# EAGLE library part US_BOARD_ADAPTED (library Traficon)
Board for US-racks, but with an 3x16pins DIN41612F connector
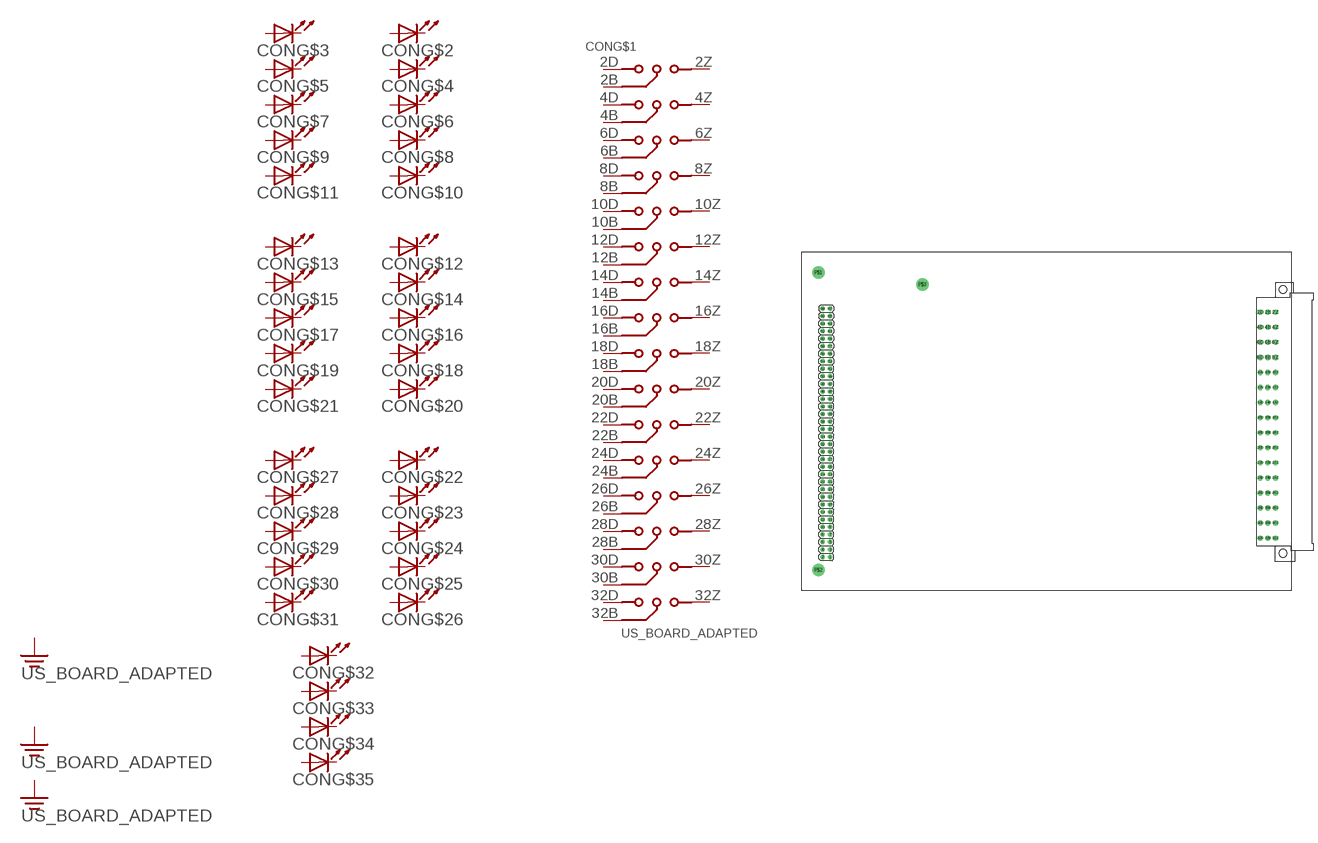
[diagram p65: symbol with the pads of US_BOARD_ADAPTED; footprint US_BOARD_ADAPTED]

Designator prefix CON; gates G$1=DIN41612-F G$2=LED-2 G$3=LED-2 G$4=LED-2 G$5=LED-2 G$6=LED-2 G$7=LED-2 G$8=LED-2 G$9=LED-2 G$10=LED-2 G$11=LED-2 G$12=LED-2 G$13=LED-2 G$14=LED-2 G$15=LED-2 G$16=LED-2 G$17=LED-2 G$18=LED-2 G$19=LED-2 G$20=LED-2 G$21=LED-2 G$22=LED-2 G$23=LED-2 G$24=LED-2 G$25=LED-2 G$26=LED-2 G$27=LED-2 G$28=LED-2 G$29=LED-2 G$30=LED-2 G$31=LED-2 G$32=LED-2 G$33=LED-2 G$34=LED-2 G$35=LED-2 G$36=PE G$37=PE G$38=PE

## US_BOARD_ADAPTED  [US_BOARD_ADAPTED]
1  G$2:A  pas
2  G$3:A  pas
2B  G$1:2B
2D  G$1:2D
2Z  G$1:2Z
3  G$2:C  pas
4  G$3:C  pas
4B  G$1:4B
4D  G$1:4D
4Z  G$1:4Z
5  G$4:A  pas
6  G$5:A  pas
6B  G$1:6B
6D  G$1:6D
6Z  G$1:6Z
7  G$4:C  pas
8  G$5:C  pas
8B  G$1:8B
8D  G$1:8D
8Z  G$1:8Z
9  G$6:A  pas
10  G$7:A  pas
10B  G$1:10B
10D  G$1:10D
10Z  G$1:10Z
11  G$6:C  pas
12  G$7:C  pas
12B  G$1:12B
12D  G$1:12D
12Z  G$1:12Z
13  G$8:A  pas
14  G$9:A  pas
14B  G$1:14B
14D  G$1:14D
14Z  G$1:14Z
15  G$8:C  pas
16  G$9:C  pas
16B  G$1:16B
16D  G$1:16D
16Z  G$1:16Z
17  G$10:A  pas
18  G$11:A  pas
18B  G$1:18B
18D  G$1:18D
18Z  G$1:18Z
19  G$10:C  pas
20  G$11:C  pas
20B  G$1:20B
20D  G$1:20D
20Z  G$1:20Z
21  G$12:A  pas
22  G$13:A  pas
22B  G$1:22B
22D  G$1:22D
22Z  G$1:22Z
23  G$12:C  pas
24  G$13:C  pas
24B  G$1:24B
24D  G$1:24D
24Z  G$1:24Z
25  G$14:A  pas
26  G$15:A  pas
26B  G$1:26B
26D  G$1:26D
26Z  G$1:26Z
27  G$14:C  pas
28  G$15:C  pas
28B  G$1:28B
28D  G$1:28D
28Z  G$1:28Z
29  G$16:A  pas
30  G$17:A  pas
30B  G$1:30B
30D  G$1:30D
30Z  G$1:30Z
31  G$16:C  pas
32  G$17:C  pas
32B  G$1:32B
32D  G$1:32D
32Z  G$1:32Z
33  G$18:A  pas
34  G$19:A  pas
35  G$18:C  pas
36  G$19:C  pas
37  G$20:A  pas
38  G$21:A  pas
39  G$20:C  pas
40  G$21:C  pas
41  G$22:A  pas
42  G$23:A  pas
43  G$22:C  pas
44  G$23:C  pas
45  G$24:A  pas
46  G$25:A  pas
47  G$24:C  pas
48  G$25:C  pas
49  G$26:A  pas
50  G$27:A  pas
51  G$26:C  pas
52  G$27:C  pas
53  G$28:A  pas
54  G$29:A  pas
55  G$28:C  pas
56  G$29:C  pas
57  G$30:A  pas
58  G$31:A  pas
59  G$30:C  pas
60  G$31:C  pas
61  G$32:A  pas
62  G$33:A  pas
63  G$32:C  pas
64  G$33:C  pas
65  G$34:A  pas
66  G$35:A  pas
67  G$34:C  pas
68  G$35:C  pas
P$1  G$36:PE  sup
P$2  G$37:PE  sup
P$3  G$38:PE  sup

## Footprint US_BOARD_ADAPTED (pad centres in mm)
drill 1.016 octagon: 1 12.525,11.43; 2 9.985,11.43; 3 12.525,13.97; 4 9.985,13.97; 5 12.525,16.51; 6 9.985,16.51; 7 12.525,19.05; 8 9.985,19.05; 9 12.525,21.59; 10 9.985,21.59; 11 12.525,24.13; 12 9.985,24.13; 13 12.525,26.67; 14 9.985,26.67; 15 12.525,29.21; 16 9.985,29.21; 17 12.525,31.75; 18 9.985,31.75; 19 12.525,34.29; 20 9.985,34.29; 21 12.525,36.83; 22 9.985,36.83; 23 12.525,39.37; 24 9.985,39.37; 25 12.525,41.91; 26 9.985,41.91; 27 12.525,44.45; 28 9.985,44.45; 29 12.525,46.99; 30 9.985,46.99; 31 12.525,49.53; 32 9.985,49.53; 33 12.525,52.07; 34 9.985,52.07; 35 12.525,54.61; 36 9.985,54.61; 37 12.525,57.15; 38 9.985,57.15; 39 12.525,59.69; 40 9.985,59.69; 41 12.525,62.23; 42 9.985,62.23; 43 12.525,64.77; 44 9.985,64.77; 45 12.525,67.31; 46 9.985,67.31; 47 12.525,69.85; 48 9.985,69.85; 49 12.525,72.39; 50 9.985,72.39; 51 12.525,74.93; 52 9.985,74.93; 53 12.525,77.47; 54 9.985,77.47; 55 12.525,80.01; 56 9.985,80.01; 57 12.525,82.55; 58 9.985,82.55; 59 12.525,85.09; 60 9.985,85.09; 61 12.525,87.63; 62 9.985,87.63; 63 12.525,90.17; 64 9.985,90.17; 65 12.525,92.71; 66 9.985,92.71; 67 12.525,95.25; 68 9.985,95.25
drill 1.016 pad 1.778 round: 2B 160.115,93.98; 2D 157.575,93.98; 2Z 162.655,93.98; 4B 160.115,88.9; 4D 157.575,88.9; 4Z 162.655,88.9; 6B 160.115,83.82; 6D 157.575,83.82; 6Z 162.655,83.82; 8B 160.115,78.74; 8D 157.575,78.74; 8Z 162.655,78.74; 10B 160.115,73.66; 10D 157.575,73.66; 10Z 162.655,73.66; 12B 160.115,68.58; 12D 157.575,68.58; 12Z 162.655,68.58; 14B 160.115,63.5; 14D 157.575,63.5; 14Z 162.655,63.5; 16B 160.115,58.42; 16D 157.575,58.42; 16Z 162.655,58.42; 18B 160.115,53.34; 18D 157.575,53.34; 18Z 162.655,53.34; 20B 160.115,48.26; 20D 157.575,48.26; 20Z 162.655,48.26; 22B 160.115,43.18; 22D 157.575,43.18; 22Z 162.655,43.18; 24B 160.115,38.1; 24D 157.575,38.1; 24Z 162.655,38.1; 26B 160.115,33.02; 26D 157.575,33.02; 26Z 162.655,33.02; 28B 160.115,27.94; 28D 157.575,27.94; 28Z 162.655,27.94; 30B 160.115,22.86; 30D 157.575,22.86; 30Z 162.655,22.86; 32B 160.115,17.78; 32D 157.575,17.78; 32Z 162.655,17.78
drill 3.2 round: P$1 8.57,107.36; P$2 8.57,7.03; P$3 43.64,103.35
hole 2.54 at 165.195,12.7
hole 2.54 at 165.195,101.6